# EAGLE library part HSP50215 (library hdsp)
Digital transmitter chip
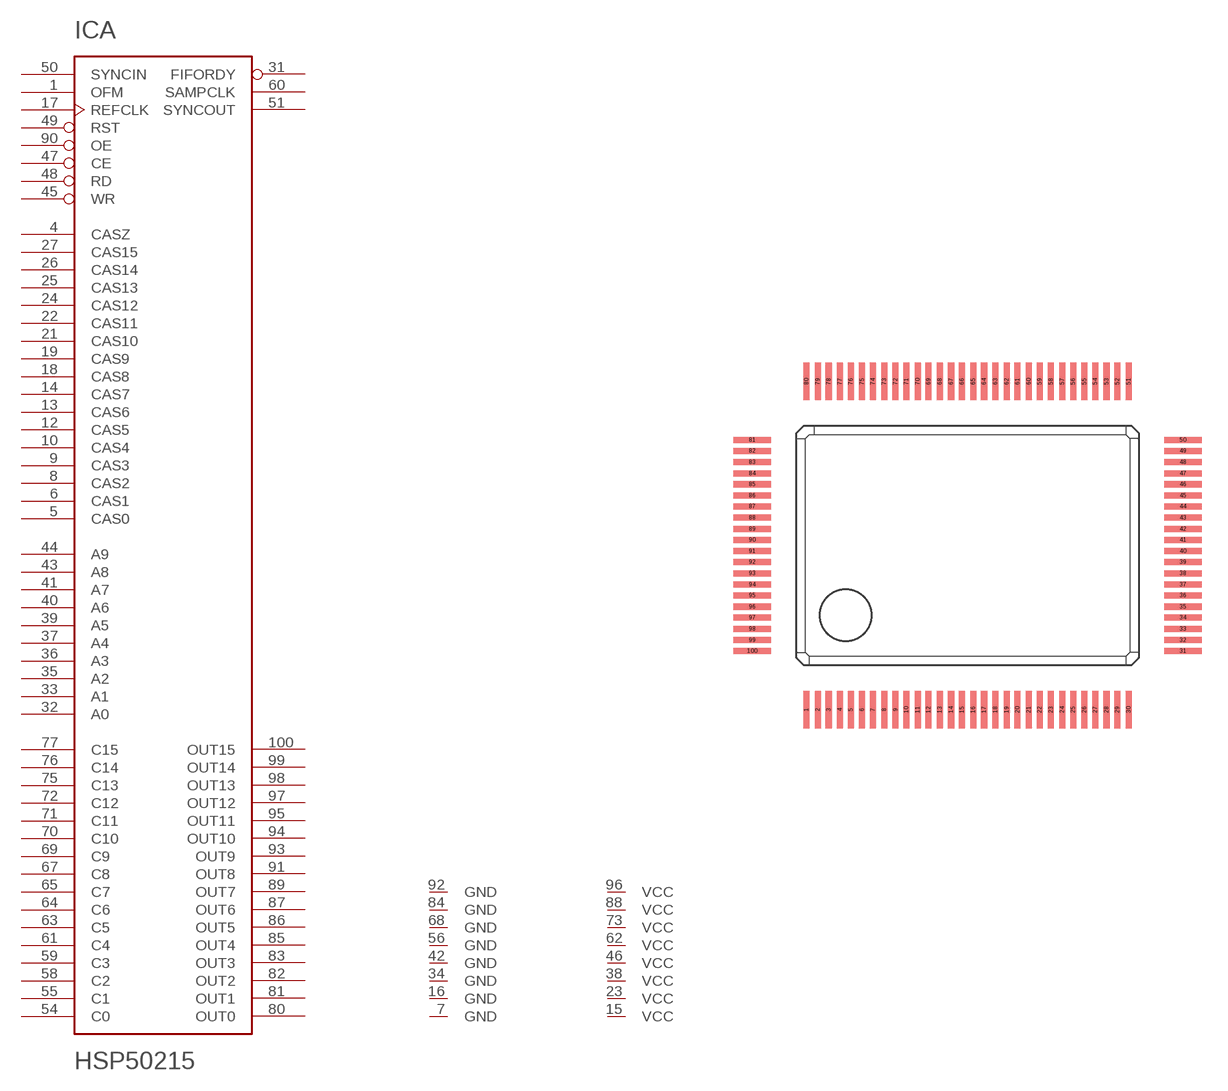
[diagram p1: symbol with the pads of QFP-100; footprint QFP-100]

Designator prefix IC; gates A=HSP50215 P=P8-8

## HSP50215  [QFP-100]
1  A:OFM  in
4  A:CASZ  in
5  A:CAS0  in
6  A:CAS1  in
7  P:GND  pwr
8  A:CAS2  in
9  A:CAS3  in
10  A:CAS4  in
12  A:CAS5  in
13  A:CAS6  in
14  A:CAS7  in
15  P:VCC  pwr
16  P:GND  pwr
17  A:REFCLK  in
18  A:CAS8  in
19  A:CAS9  in
21  A:CAS10  in
22  A:CAS11  in
23  P:VCC  pwr
24  A:CAS12  in
25  A:CAS13  in
26  A:CAS14  in
27  A:CAS15  in
31  A:FIFORDY  out
32  A:A0  in
33  A:A1  in
34  P:GND  pwr
35  A:A2  in
36  A:A3  in
37  A:A4  in
38  P:VCC  pwr
39  A:A5  in
40  A:A6  in
41  A:A7  in
42  P:GND  pwr
43  A:A8  in
44  A:A9  in
45  A:WR  in
46  P:VCC  pwr
47  A:CE  in
48  A:RD  in
49  A:RST  in
50  A:SYNCIN  in
51  A:SYNCOUT  out
54  A:C0
55  A:C1
56  P:GND  pwr
58  A:C2
59  A:C3
60  A:SAMPCLK  out
61  A:C4
62  P:VCC  pwr
63  A:C5
64  A:C6
65  A:C7
67  A:C8
68  P:GND  pwr
69  A:C9
70  A:C10
71  A:C11
72  A:C12
73  P:VCC  pwr
75  A:C13
76  A:C14
77  A:C15
80  A:OUT0  out
81  A:OUT1  out
82  A:OUT2  out
83  A:OUT3  out
84  P:GND  pwr
85  A:OUT4  out
86  A:OUT5  out
87  A:OUT6  out
88  P:VCC  pwr
89  A:OUT7  out
90  A:OE  in
91  A:OUT8  out
92  P:GND  pwr
93  A:OUT9  out
94  A:OUT10  out
95  A:OUT11  out
96  P:VCC  pwr
97  A:OUT12  out
98  A:OUT13  out
99  A:OUT14  out
100  A:OUT15  out

## Footprint QFP-100 (pad centres in mm)
smd 0.356 x 2.21: 1 -9.423,-9.601; 2 -8.763,-9.601; 3 -8.128,-9.601; 4 -7.468,-9.601; 5 -6.833,-9.601; 6 -6.172,-9.601; 7 -5.537,-9.601; 8 -4.877,-9.601; 9 -4.216,-9.601; 10 -3.581,-9.601; 11 -2.921,-9.601; 12 -2.286,-9.601; 13 -1.626,-9.601; 14 -0.965,-9.601; 15 -0.33,-9.601; 16 0.33,-9.601; 17 0.965,-9.601; 18 1.626,-9.601; 19 2.286,-9.601; 20 2.921,-9.601; 21 3.581,-9.601; 22 4.216,-9.601; 23 4.877,-9.601; 24 5.537,-9.601; 25 6.172,-9.601; 26 6.833,-9.601; 27 7.468,-9.601; 28 8.128,-9.601; 29 8.763,-9.601; 30 9.423,-9.601; 51 9.423,9.601; 52 8.763,9.601; 53 8.128,9.601; 54 7.468,9.601; 55 6.833,9.601; 56 6.172,9.601; 57 5.537,9.601; 58 4.877,9.601; 59 4.216,9.601; 60 3.581,9.601; 61 2.921,9.601; 62 2.286,9.601; 63 1.626,9.601; 64 0.965,9.601; 65 0.33,9.601; 66 -0.33,9.601; 67 -0.965,9.601; 68 -1.626,9.601; 69 -2.286,9.601; 70 -2.921,9.601; 71 -3.581,9.601; 72 -4.216,9.601; 73 -4.877,9.601; 74 -5.537,9.601; 75 -6.172,9.601; 76 -6.833,9.601; 77 -7.468,9.601; 78 -8.128,9.601; 79 -8.763,9.601; 80 -9.423,9.601
smd 2.21 x 0.356: 31 12.598,-6.172; 32 12.598,-5.537; 33 12.598,-4.877; 34 12.598,-4.216; 35 12.598,-3.581; 36 12.598,-2.921; 37 12.598,-2.286; 38 12.598,-1.626; 39 12.598,-0.965; 40 12.598,-0.33; 41 12.598,0.33; 42 12.598,0.965; 43 12.598,1.626; 44 12.598,2.286; 45 12.598,2.921; 46 12.598,3.581; 47 12.598,4.216; 48 12.598,4.877; 49 12.598,5.537; 50 12.598,6.172; 81 -12.598,6.172; 82 -12.598,5.537; 83 -12.598,4.877; 84 -12.598,4.216; 85 -12.598,3.581; 86 -12.598,2.921; 87 -12.598,2.286; 88 -12.598,1.626; 89 -12.598,0.965; 90 -12.598,0.33; 91 -12.598,-0.33; 92 -12.598,-0.965; 93 -12.598,-1.626; 94 -12.598,-2.286; 95 -12.598,-2.921; 96 -12.598,-3.581; 97 -12.598,-4.216; 98 -12.598,-4.877; 99 -12.598,-5.537; 100 -12.598,-6.172